# Altium footprint library 0007-Optical_Tracker.PcbLib: 22 footprints (part 1 of 2)
Each footprint in its own frame and in the unit in brackets; x right, y up, seen from the top. Pads: shape width x height; smd on the part's side, far side on the other; paste and mask are expansions set on the pad; w line width, h text height; cw(c..) or ccw(c..) is an arc to the next point about the centre after c.
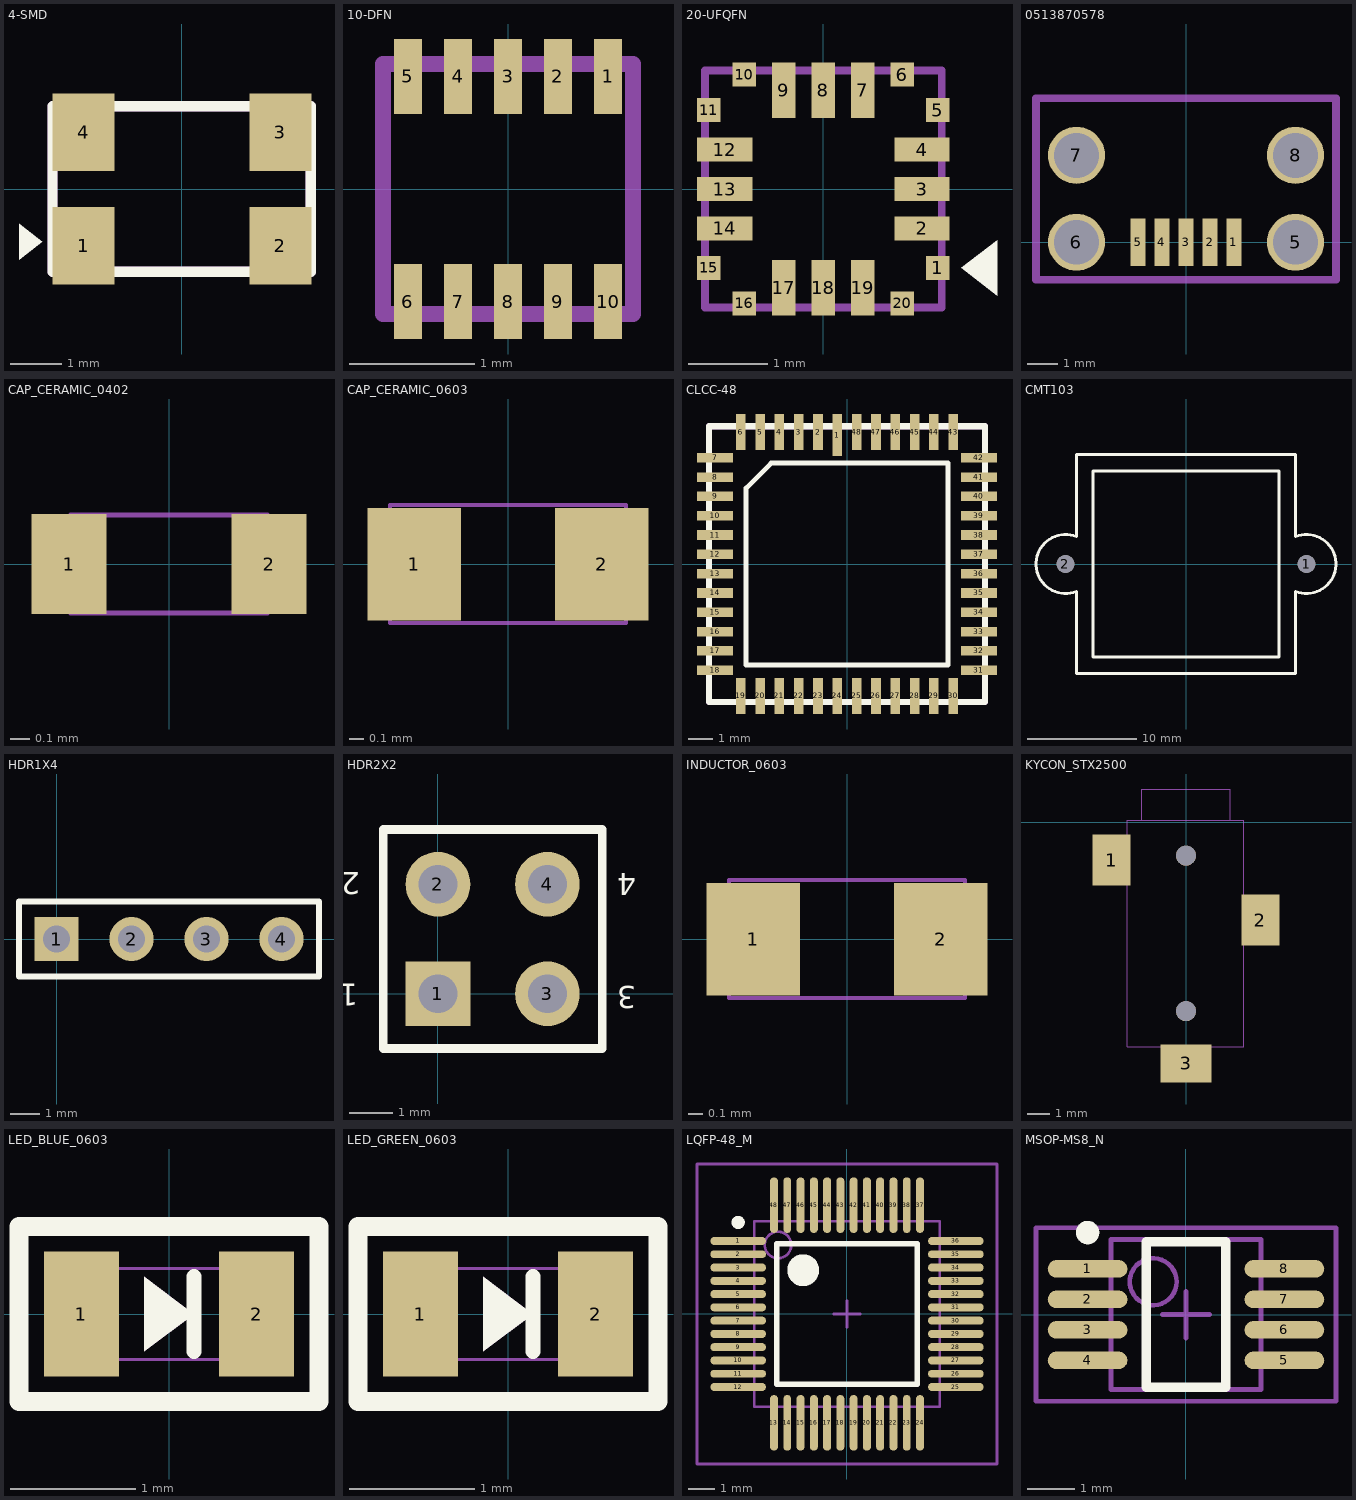
[diagram p0: the footprints below, top view; thin cyan lines are the x and y axes]

## 4-SMD [mm]
pads (4):
  rect 1.2x1.5 smd: 1(-1.9,-1.1) 2(1.91,-1.1) 3(1.91,1.1) 4(-1.9,1.1)
Top Overlay:
  region: -2.7,-1.025 -3.15,-1.375 -3.15,-0.675
  lines w0.2: -2.5,1.6 -2.5,-1.6 2.5,-1.6 ; -2.5,1.6 2.5,1.6 ; -2.5,1.6 2.5,1.6 ; 2.5,-1.6 2.5,1.6 ; 2.5,-1.6 2.5,1.6
Mechanical 15:
  lines w0.2: -2.5,-1.6 -2.5,1.6 ; -2.5,-1.6 -2.5,1.6 ; -2.5,-1.6 2.5,-1.6 ; -2.5,-1.6 2.5,-1.6 ; -2.5,1.6 2.5,1.6 2.5,-1.6
3D body: height 1.3, standoff 0, extent -2.5,-1.625 2.5,1.6

## 10-DFN [mm]
height 1
pads (10):
  rect 0.225x0.6 smd: 1(0.8,0.9) 2(0.4,0.9) 3(0,0.9) 4(-0.4,0.9) 5(-0.8,0.9) 6(-0.8,-0.9) 7(-0.4,-0.9) 8(0,-0.9) 9(0.4,-0.9) 10(0.8,-0.9)
Mechanical 15:
  lines w0.127: -1,-1 1,-1 1,1 -1,1 -1,-1
3D body: height 1, standoff 0, extent -1,-1 1,1

## 20-UFQFN [mm] "20-lead ultra thin fine pitch quad flat no-lead package (3x3)"
height 0.6
pads (20):
  rect 0.3x0.3 smd mask+0.064: 1(1.45,-1) 5(1.45,1) 6(1,1.45) 10(-1,1.45) 11(-1.45,1) 15(-1.45,-1) 16(-1,-1.45) 20(1,-1.45)
  rect 0.7x0.3 smd mask+0.064: 2(1.25,-0.5) 3(1.25,0) 4(1.25,0.5) 12(-1.25,0.5) 13(-1.25,0) 14(-1.25,-0.5)
  rect 0.3x0.7 smd mask+0.064: 7(0.5,1.25) 8(0,1.25) 9(-0.5,1.25) 17(-0.5,-1.25) 18(0,-1.25) 19(0.5,-1.25)
Top Overlay:
  region: 1.75,-1 2.2,-0.65 2.2,-1.35
Mechanical 13:
  lines w0.1: -1.5,-1.5 -1.5,1.5 1.5,1.5 1.5,-1.5 -1.5,-1.5
3D body: height 1.3, standoff 0, extent -1.5,-1.5 1.475,1.5

## 0513870578 [mm] "CONN RECEPT MINIUSB R/A 5POS SMD"
height 4.4
pads (9):
  rect 0.5x1.6 smd: 1(1.6,0) 2(0.8,0) 3(0,0) 4(-0.8,0) 5(-1.6,0)
  round 1.9 hole 1.5: 5(3.65,0) 6(-3.65,0) 7(-3.65,2.9) 8(3.65,2.9)
Mechanical 15:
  lines w0.254: -5,-1.25 5,-1.25 5,4.8 -5,4.8 -5,-1.25
3D body: height 4.05, standoff -1.8, extent -3.85,-0.5 3.85,6.2

## CAP_CERAMIC_0402 [mil]
pads (2):
  rect 15x20 smd mask+2.5: 1(-20,0) 2(20,0)
Mechanical 1:
  lines w1: -19.68,-9.84 -19.68,9.84 19.68,9.84 19.68,-9.84 -19.68,-9.84
3D body: height 22.05, standoff 0, extent -19.68,-9.84 19.68,9.84

## CAP_CERAMIC_0603 [mil]
pads (2):
  rect 25x30 smd mask+2.5: 1(-25,0) 2(25,0)
Mechanical 1:
  lines w1: -31.5,-15.75 -31.5,15.75 31.5,15.75 31.5,-15.75 -31.5,-15.75
3D body: height 21.65, standoff 0, extent -31.5,-15.75 31.5,15.75

## CLCC-48 [mm]
height 2.3
pads (48):
  rect 0.4x1.75 smd: 1(-0.4,5.35)
  rect 0.4x1.5 smd: 2(-1.2,5.475) 3(-2,5.475) 4(-2.8,5.475) 5(-3.6,5.475) 6(-4.4,5.475) 19(-4.4,-5.455) 20(-3.6,-5.455) 21(-2.8,-5.455) 22(-2,-5.455) 23(-1.2,-5.455) 24(-0.4,-5.455) 25(0.4,-5.455) 26(1.2,-5.455) 27(2,-5.455) 28(2.8,-5.455) 29(3.6,-5.455) 30(4.4,-5.455) 43(4.4,5.475) 44(3.6,5.475) 45(2.8,5.475) 46(2,5.475) 47(1.2,5.475) 48(0.4,5.475)
  rect 1.5x0.4 smd: 7(-5.465,4.41) 8(-5.465,3.61) 9(-5.465,2.81) 10(-5.465,2.01) 11(-5.465,1.21) 12(-5.465,0.41) 13(-5.465,-0.39) 14(-5.465,-1.19) 15(-5.465,-1.99) 16(-5.465,-2.79) 17(-5.465,-3.59) 18(-5.465,-4.39) 31(5.465,-4.39) 32(5.465,-3.59) 33(5.465,-2.79) 34(5.465,-1.99) 35(5.465,-1.19) 36(5.465,-0.39) 37(5.465,0.41) 38(5.465,1.21) 39(5.465,2.01) 40(5.465,2.81) 41(5.465,3.61) 42(5.465,4.41)
Top Overlay:
  lines w0.2: -4.18,-4.17 4.18,-4.17 4.18,4.19 -3.145,4.19 -4.18,3.155 -4.18,-4.17
  lines w0.254: -5.725,5.715 -5.715,-5.715 5.715,-5.715 5.715,5.715 -5.715,5.715
Mechanical 13:
  lines w0.254: -5.725,5.715 -5.715,-5.715 5.715,-5.715 5.715,5.715 -5.715,5.715
3D body: height 2.3, standoff 0, extent -5.75,-5.75 5.75,5.75

## CMT103 [mm]
height 16.2
pads (2):
  round 1.6 hole 1.6 unplated: 1(11,0) 2(-11,0)
Top Overlay:
  lines w0.254: -10,-10 -10,-2.5 cw(c-11,0) -10,2.5 -10,10 10,10 10,5 10,2.5 cw(c11,0) 10,-2.5 10,-5 10,-10 -10,-10 ; -8.5,-8.5 8.5,-8.5 8.5,8.5 -8.5,8.5 -8.5,-8.5
3D body: height 16.2, standoff 0, extent -13.3,-10 13.3,10

## HDR1X4 [mm] "Connector; Header; 4 Position"
pads (4):
  rect 1.5x1.5 hole 0.9: 1(0,0)
  round 1.5 hole 0.9: 2(2.54,0) 3(5.08,0) 4(7.62,0)
Top Overlay:
  lines w0.2: -1.27,-1.27 -1.27,1.27 8.89,1.27 8.89,-1.27 -1.27,-1.27

## HDR2X2 [mm] "Connector; Header; 2x2 Position"
pads (4):
  rect 1.5x1.5 hole 0.9: 1(0,0)
  round 1.5 hole 0.9: 2(0,2.54) 3(2.54,0) 4(2.54,2.54)
Top Overlay:
  lines w0.2: -1.27,-1.27 -1.27,3.81 3.81,3.81 3.81,-1.27 -1.27,-1.27
  text "1" at -1.854,0.229 h0.51
  text "2" at -1.803,2.819 h0.51
  text "4" at 4.597,2.794 h0.51
  text "3" at 4.597,0.178 h0.51
3D body: height 8.25, standoff -3.15, extent -1.315,-1.365 3.765,3.715

## INDUCTOR_0603 [mil]
pads (2):
  rect 25x30 smd mask+2.5: 1(-25,0) 2(25,0)
Mechanical 1:
  lines w1: -31.5,-15.75 -31.5,15.75 31.5,15.75 31.5,-15.75 -31.5,-15.75
3D body: height 21.65, standoff 0, extent -31.5,-15.75 31.5,15.75

## KYCON_STX2500 [mm]
pads (5):
  rect 1.7x2.3 smd paste+0 mask+0.102: 1(-3.35,-1.7) 2(3.35,-4.4)
  rect 2.3x1.7 smd paste+0 mask+0.102: 3(0,-10.85)
  round 0.9 hole 0.9 unplated paste+0 mask+0.102: ""(0,-8.5) ""(0,-1.5)
Mechanical 13:
  lines w0.025: -2,0.1 -2,1.5 2,1.5 2,0.1 ; -2.65,-10.1 2.6,-10.1 2.6,0.1 -2.65,0.1 -2.65,-10.1
Mechanical 15:
  lines w0.025: -2,0.1 -2,1.5 2,1.5 2,0.1 ; -2.65,-10.1 -2.65,0.1 2.6,0.1 2.6,-10.1 -2.65,-10.1
3D body: height 4, standoff 0, extent -2.649,-10.099 2.599,0.099
3D body: height 4, standoff 0, extent -1.999,0.101 1.999,1.499

## LED_BLUE_0603 [mm]
pads (2):
  rect 0.6x1 smd mask+0.064: 1(-0.7,0) 2(0.7,0)
Top Overlay:
  region: 0.2,0 -0.2,0.3 -0.2,-0.3
  lines w0.12: 0.2,-0.3 0.2,0.3
  lines w0.15: -1.2,-0.7 -1.2,0.7 1.2,0.7 1.2,-0.7 -1.2,-0.7
Mechanical 1:
  region: 0.2,0 -0.2,0.3 -0.2,-0.3
  lines w0.025: 0.2,-0.3 0.2,0.3 ; -0.825,-0.363 0.826,-0.363 0.826,0.363 -0.825,0.363 -0.825,-0.363
3D body: height 0.68, standoff 0, extent -0.825,-0.362 0.825,0.363

## LED_GREEN_0603 [mm]
pads (2):
  rect 0.6x1 smd mask+0.064: 1(-0.7,0) 2(0.7,0)
Top Overlay:
  region: 0.2,0 -0.2,0.3 -0.2,-0.3
  lines w0.12: 0.2,-0.3 0.2,0.3
  lines w0.15: -1.2,-0.7 -1.2,0.7 1.2,0.7 1.2,-0.7 -1.2,-0.7
Mechanical 1:
  region: 0.2,0 -0.2,0.3 -0.2,-0.3
  lines w0.025: 0.2,-0.3 0.2,0.3 ; -0.825,-0.363 0.826,-0.363 0.826,0.363 -0.825,0.363 -0.825,-0.363
3D body: height 0.68, standoff 0, extent -0.825,-0.362 0.825,0.363

## LQFP-48_M [mm] "48-Pin Thin Quad Flat Pack 0.5 mm Pitch, IPC Low Density"
height 1.6
pads (48):
  oval 2.1x0.3 smd: 1(-4.1,2.75) 2(-4.1,2.25) 3(-4.1,1.75) 4(-4.1,1.25) 5(-4.1,0.75) 6(-4.1,0.25) 7(-4.1,-0.25) 8(-4.1,-0.75) 9(-4.1,-1.25) 10(-4.1,-1.75) 11(-4.1,-2.25) 12(-4.1,-2.75) 25(4.1,-2.75) 26(4.1,-2.25) 27(4.1,-1.75) 28(4.1,-1.25) 29(4.1,-0.75) 30(4.1,-0.25) 31(4.1,0.25) 32(4.1,0.75) 33(4.1,1.25) 34(4.1,1.75) 35(4.1,2.25) 36(4.1,2.75)
  oval 0.3x2.1 smd: 13(-2.75,-4.1) 14(-2.25,-4.1) 15(-1.75,-4.1) 16(-1.25,-4.1) 17(-0.75,-4.1) 18(-0.25,-4.1) 19(0.25,-4.1) 20(0.75,-4.1) 21(1.25,-4.1) 22(1.75,-4.1) 23(2.25,-4.1) 24(2.75,-4.1) 37(2.75,4.1) 38(2.25,4.1) 39(1.75,4.1) 40(1.25,4.1) 41(0.75,4.1) 42(0.25,4.1) 43(-0.25,4.1) 44(-0.75,4.1) 45(-1.25,4.1) 46(-1.75,4.1) 47(-2.25,4.1) 48(-2.75,4.1)
Top Overlay:
  circle w0.25: c-4.1,3.45 r0.125
  circle w0.6: c-1.65,1.65 r0.3
  lines w0.2: -2.65,-2.65 -2.65,2.65 2.65,2.65 2.65,-2.65 -2.65,-2.65
Mechanical 13:
  circle w0.1: c-2.6,2.6 r0.5
  lines w0.1: -3.5,-3.5 -3.5,3.5 3.5,3.5 3.5,-3.5 -3.5,-3.5
Mechanical 15:
  lines w0.1: -0.5,0 0.5,0 ; 0,-0.5 0,0.5 ; -5.65,-5.65 -5.65,5.65 5.65,5.65 5.65,-5.65 -5.65,-5.65
3D body: height 1.6, standoff 0, extent -3.5,-3.5 3.5,3.5

## MSOP-MS8_N [mm] "TSOP, 8-Leads, Body 3x3mm, Pitch 0.65mm, IPC Medium Density"
height 1.1
pads (8):
  oval 1.7x0.375 smd: 1(-2.1,0.975) 2(-2.1,0.325) 3(-2.1,-0.325) 4(-2.1,-0.975) 5(2.1,-0.975) 6(2.1,-0.325) 7(2.1,0.325) 8(2.1,0.975)
Top Overlay:
  circle w0.25: c-2.1,1.75 r0.125
  lines w0.2: -0.85,-1.55 0.85,-1.55 0.85,1.55 -0.85,1.55 -0.85,-1.55
Mechanical 13:
  circle w0.1: c-0.7,0.7 r0.5
  lines w0.1: -1.6,-1.6 1.6,-1.6 1.6,1.6 -1.6,1.6 -1.6,-1.6
Mechanical 15:
  lines w0.1: -0.5,0 0.5,0 ; 0,-0.5 0,0.5 ; -3.2,-1.85 3.2,-1.85 3.2,1.85 -3.2,1.85 -3.2,-1.85
3D body: height 0.94, standoff -0.04, extent -2.45,-1.5 2.45,1.5